# EAGLE library part DIP-SWITCH-4P(EHS104LD) (library gclue)
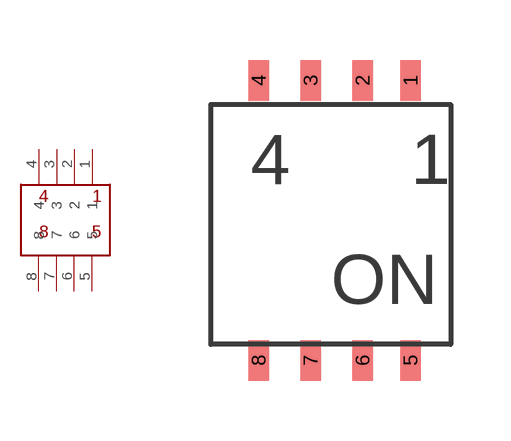
[diagram p2: symbol with the pads of DIP-SWITCH-4P(EHS104LD); footprint DIP-SWITCH-4P(EHS104LD)]

Designator prefix -

## DIP-SWITCH-4P(EHS104LD)  [DIP-SWITCH-4P(EHS104LD)]
1  1
2  2
3  3
4  4
5  5
6  6
7  7
8  8

## Footprint DIP-SWITCH-4P(EHS104LD) (pad centres in mm)
smd 0.508 x 1.016: 1 2,3.6; 2 0.8,3.6; 3 -0.5,3.6; 4 -1.8,3.6; 5 2,-3.4; 6 0.8,-3.4; 7 -0.5,-3.4; 8 -1.8,-3.4